# Altium schematic symbol library Schlib1.SchLib: 1 symbol
Pins are listed as number, name and electrical type; pins without a type are passive.

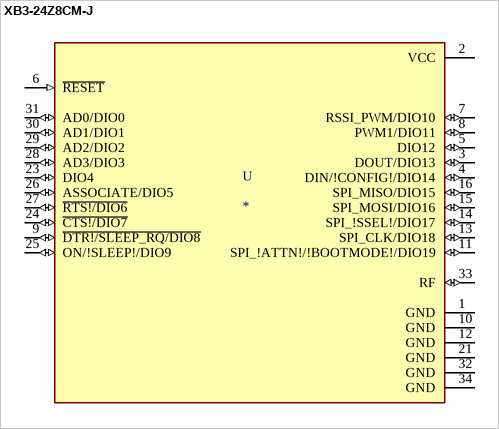
[diagram p0: symbol XB3-24Z8CM-J]

## XB3-24Z8CM-J
designator U
802.15.4 ZigbeeÂ® Transceiver Module 2.4GHz Integrated, Chip Surface Mount; MF: Digi International; MP: XB3-24Z8CM-J; Price: None; Availability: Unavailable; SnapEDA_Link: https://www.snapeda.com/parts/XB3-24Z8CM-J/Digi%20International/view-part/2597885/?ref=snap; Value: *; Package: SMD-34 Digi International
footprint XCVR_XB3-24Z8CM-J (Footprint not found)
footprint XCVR_XB3-24Z8CM-J (Footprint not found)
pins: 1 GND (power), 2 VCC (power), 3 DOUT/DIO13 (io), 4 DIN/!CONFIG!/DIO14 (io), 5 DIO12 (io), 6 ~{RESET} (in), 7 RSSI_PWM/DIO10 (io), 8 PWM1/DIO11 (io), 9 ~{DTR!/SLEEP_RQ/DIO8} (io), 10 GND (power), 11 SPI_!ATTN!/!BOOTMODE!/DIO19 (io), 12 GND (power), 13 SPI_CLK/DIO18 (io), 14 SPI_!SSEL!/DIO17 (io), 15 SPI_MOSI/DIO16 (io), 16 SPI_MISO/DIO15 (io), 21 GND (power), 23 DIO4 (io), 24 ~{CTS!/DIO7} (io), 25 ON/!SLEEP!/DIO9 (io), 26 ASSOCIATE/DIO5 (io), 27 ~{RTS!/DIO6} (io), 28 AD3/DIO3 (io), 29 AD2/DIO2 (io), 30 AD1/DIO1 (io), 31 AD0/DIO0 (io), 32 GND (power), 33 RF (io), 34 GND (power)